# EAGLE library part IM920C (library IM920)
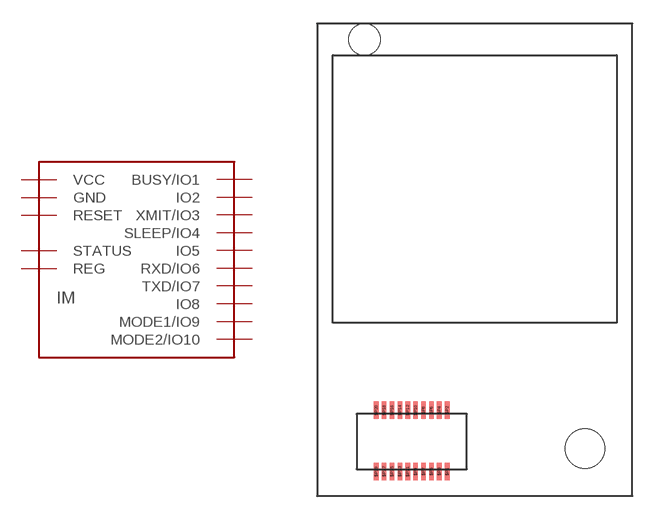
[diagram p1: symbol with the pads of IM920C; footprint IM920C]

Designator prefix IM

## IM920C  [IM920C]
$P1  BUSY/IO1
$P2  IO2
$P3  XMIT/IO3
$P4  SLEEP/IO4
$P5  IO5
$P6  RXD/IO6
$P7  TXD/IO7
$P8  IO8
$P9  MODE1/IO9
$P10  MODE2/IO10
$P15  STATUS
$P16  REG
$P17  VCC
$P18  GND
$P19  RESET

## Footprint IM920C (pad centres in mm)
smd 0.3 x 1.1: $P1 -1.75,-13.45; $P2 -1.75,-9.55; $P3 -2.25,-13.45; $P4 -2.25,-9.55; $P5 -2.75,-13.45; $P6 -2.75,-9.55; $P7 -3.25,-13.45; $P8 -3.25,-9.55; $P9 -3.75,-13.45; $P10 -3.75,-9.55; $P11 -4.25,-13.45; $P12 -4.25,-9.55; $P13 -4.75,-13.45; $P14 -4.75,-9.55; $P15 -5.25,-13.45; $P16 -5.25,-9.55; $P17 -5.75,-13.45; $P18 -5.75,-9.55; $P19 -6.25,-13.45; $P20 -6.25,-9.55
hole 2.5 at 7,-12
hole 2 at -7,14